# Altium footprint library Wurth_Elektronik_Passive_rev16a.PCBLIB: 810 footprints (part 31 of 51)
Each footprint in its own frame and in the unit in brackets; x right, y up, seen from the top. Pads: shape width x height; smd on the part's side, far side on the other; paste and mask are expansions set on the pad; w line width, h text height; cw(c..) or ccw(c..) is an arc to the next point about the centre after c.
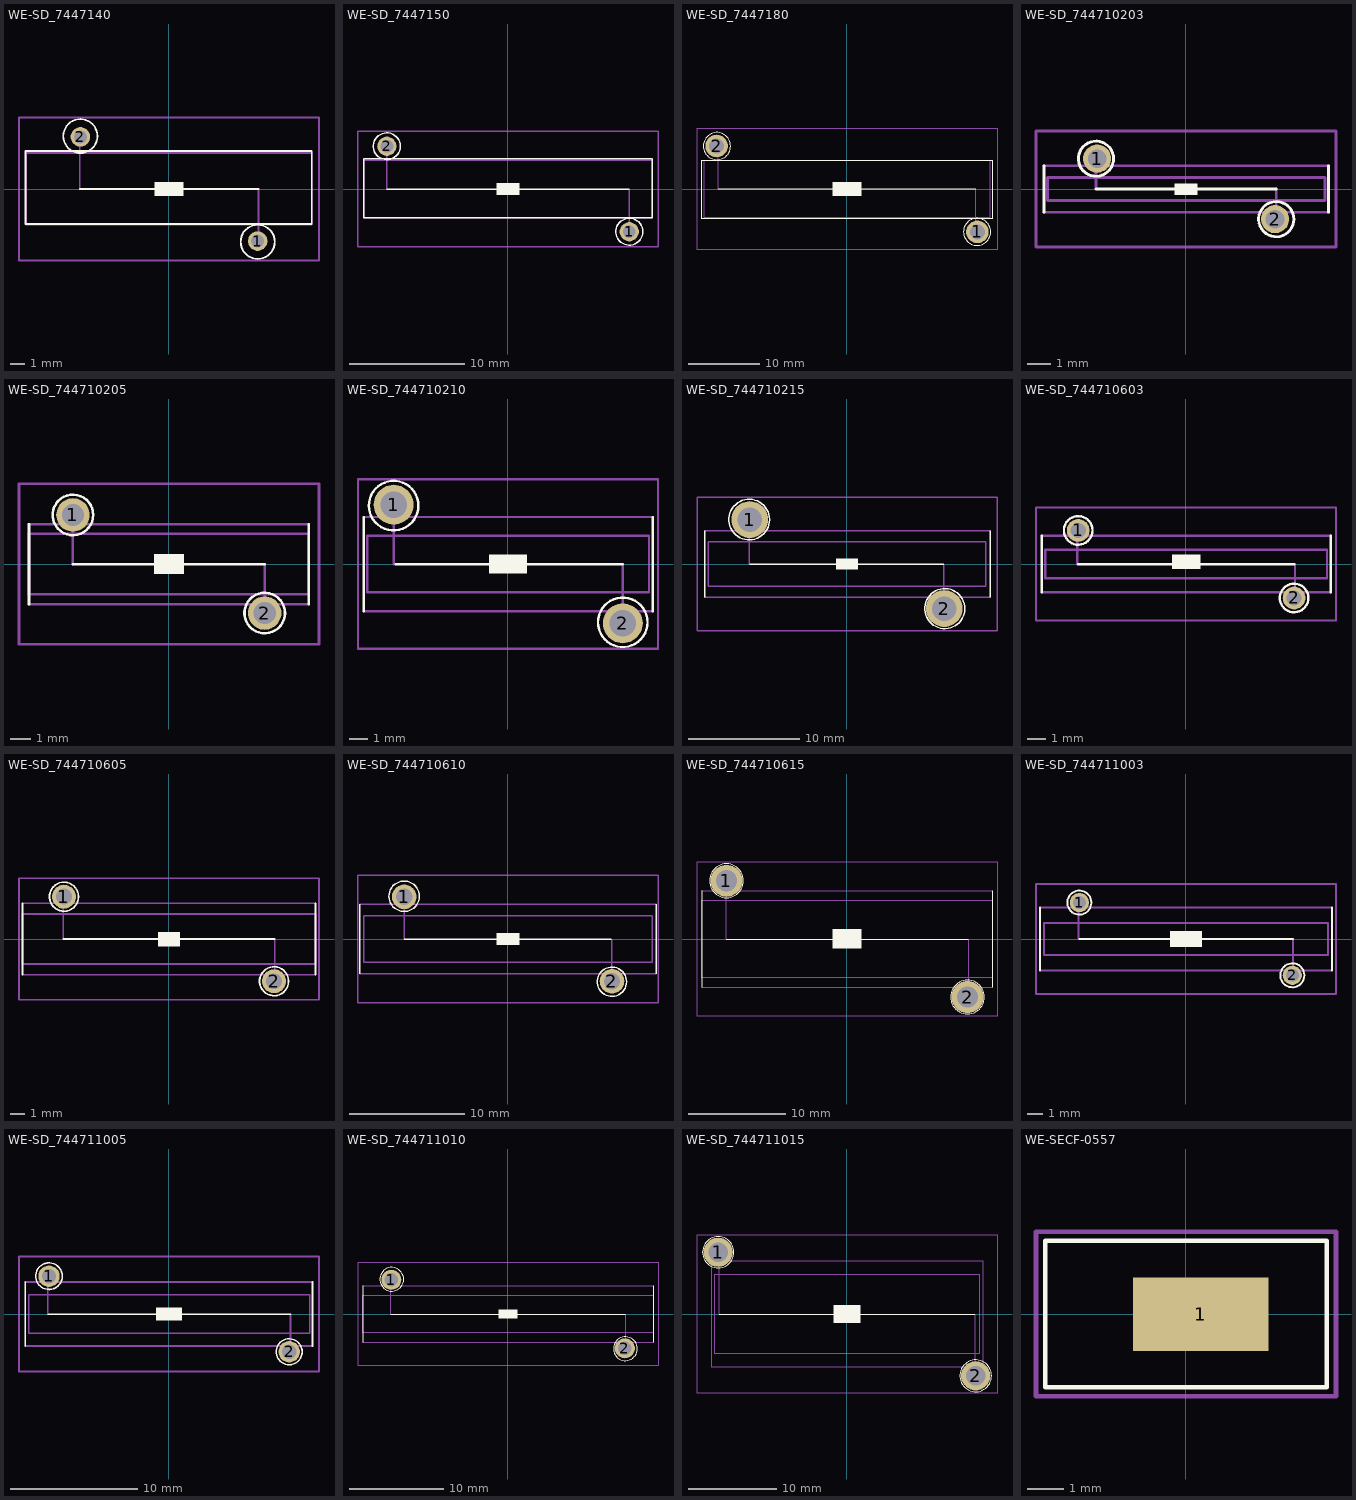
[diagram p30: the footprints below, top view; thin cyan lines are the x and y axes]

## WE-SD_7447140 [mil]
pads (2):
  round 54 hole 36: 1(245,-143.7) 2(-244.09,144)
Top Overlay:
  circle w5: c245,-145.67 r47
  circle w5: c-244.09,146 r47
  region: 40,20 -39.37,20 -39.37,-19.68 40,-19.69
  lines w5: -246.06,0 247,0 ; -395.67,-96.46 -395.67,105 394,105 394,-96.46 -395.67,-96.46
Mechanical 2:
  text ">NAME" at -392.13,224 h77.5
Mechanical 4:
  text ">VALUE" at -384.06,-253.74 h77.5
Mechanical 10:
  lines w5: -393.7,-98.43 394,-98.43 394,99 -393.7,99 -393.7,-98.43
Mechanical 16:
  lines w5: -246.06,0 -246.06,138 ; 247,-147.64 247,0
Mechanical 27:
  lines w5: -413.39,-196.85 414,-196.85 414,197 -413.39,197 -413.39,-196.85

## WE-SD_7447150 [mil]
pads (2):
  round 66 hole 44: 1(414,-145.67) 2(-413.39,146)
Top Overlay:
  circle w5: c414,-145.67 r46
  circle w5: c-413.39,146 r46
  region: 40,20 -39.37,20 -39.37,-19.68 40,-19.69
  lines w5: -413.39,0 414,0 ; -492.13,-98.43 493,-98.43 493,103 -492.13,103 -492.13,-98.43
Mechanical 2:
  text ">NAME" at -483.66,224 h77.5
Mechanical 4:
  text ">VALUE" at -464.37,-253.74 h77.5
Mechanical 10:
  lines w5: -492.13,-98.43 493,-98.43 493,99 -492.13,99 -492.13,-98.43
Mechanical 16:
  lines w5: -413.39,0 -413.39,138 ; 414,-137.8 414,0
Mechanical 27:
  lines w5: -511.81,-196.85 512,-196.85 512,197 -511.81,197 -511.81,-196.85

## WE-SD_7447180 [mil]
pads (2):
  round 124.5 hole 83: 1(719,-236.22) 2(-718.5,237)
Top Overlay:
  circle w5: c717,-236.22 r75
  circle w5: c-716.54,237 r75
  region: 79,40 -78.74,40 -78.74,-39.37 79,-39.37
  lines w5: -708.66,0 709,0 ; -799.21,-163.39 800,-163.39 800,160 -799.21,160 -799.21,-163.39
Mechanical 2:
  text ">NAME" at -804.53,353 h77.5
Mechanical 4:
  text ">VALUE" at -789.37,-387.8 h77.5
Mechanical 10:
  lines w5: -787.4,-157.48 788,-157.48 788,158 -787.4,158 -787.4,-157.48
Mechanical 16:
  lines w5: -708.66,0 -708.66,237 ; 709,-236.22 709,0
Mechanical 27:
  lines w5: -826.77,-334.65 827,-334.65 827,335 -826.77,335 -826.77,-334.65

## WE-SD_744710203 [mil]
pads (2):
  round 48 hole 32: 1(-151.57,52) 2(152,-51.18)
Top Overlay:
  circle w5: c154,-51.18 r30
  circle w5: c-153.54,52 r30
  rectangle: -19.68,-9.84 20,10
  lines w5: -242.13,-39.37 -242.13,40 ; -153.54,0 154,0 ; 243,-39.37 243,40
Mechanical 2:
  text ">NAME" at -298.03,151 h77.5
Mechanical 4:
  text ">VALUE" at -294.09,-199.61 h77.5
Mechanical 10:
  lines w5: -236.22,-19.68 237,-19.68 237,20 -236.22,20 -236.22,-19.68
Mechanical 16:
  lines w5: -242.13,-39.37 243,-39.37 ; -242.13,40 243,40 ; -153.54,0 -153.54,48 ; 154,-51.18 154,0
Mechanical 27:
  lines w5: -255.91,-98.43 256,-98.43 256,99 -255.91,99 -255.91,-98.43

## WE-SD_744710205 [mil]
pads (2):
  round 66 hole 44: 1(-188.98,97) 2(189,-96.46)
Top Overlay:
  circle w5: c-188.98,97 r40
  circle w5: c189,-96.46 r40
  rectangle: -29.53,-19.68 30,20
  lines w5: -275.59,-78.74 -275.59,79 ; -188.98,0 189,0 ; 276,-78.74 276,79
Mechanical 2:
  text ">NAME" at -295.28,168 h77.5
Mechanical 4:
  text ">VALUE" at -285.43,-216.54 h77.5
Mechanical 10:
  lines w5: -275.59,-59.06 276,-59.06 276,60 -275.59,60 -275.59,-59.06
Mechanical 16:
  lines w5: -275.59,-78.74 276,-78.74 ; -275.59,79 276,79 ; -188.98,0 -188.98,95 ; 189,-94.49 189,0
Mechanical 27:
  lines w5: -295.28,-157.48 296,-157.48 296,158 -295.28,158 -295.28,-157.48

## WE-SD_744710210 [mil]
pads (2):
  round 84 hole 56: 1(-240.16,125) 2(241,-124.02)
Top Overlay:
  circle w5: c-240.16,123 r52
  circle w5: c241,-122.05 r52
  rectangle: -39.37,-19.68 40,20
  lines w5: -303.15,-98.43 -303.15,99 ; -236.22,0 241,0 ; 304,-98.43 304,99
Mechanical 2:
  text ">NAME" at -303.15,197 h77.5
Mechanical 4:
  text ">VALUE" at -295.28,-228.35 h77.5
Mechanical 10:
  lines w5: -295.28,-59.06 296,-59.06 296,60 -295.28,60 -295.28,-59.06
Mechanical 16:
  lines w5: -303.15,-98.43 304,-98.43 ; -303.15,99 304,99 ; -240.16,0 -240.16,123 ; 241,-122.05 241,-3.94
Mechanical 27:
  lines w5: -314.96,-177.17 315,-177.17 315,178 -314.96,178 -314.96,-177.17

## WE-SD_744710215 [mil]
pads (2):
  round 130.5 hole 87: 1(-344.49,158) 2(345,-157.48)
Top Overlay:
  circle w5: c-346.46,158 r72
  circle w5: c347,-157.87 r71
  rectangle: -39.37,-19.68 40,20
  lines w5: -503.94,-118.11 -503.94,119 ; -344.49,0 343,0 ; 508,-118.11 508,119
Mechanical 2:
  text ">NAME" at -517.72,260 h77.5
Mechanical 4:
  text ">VALUE" at -507.87,-297.24 h77.5
Mechanical 10:
  lines w5: -492.13,-78.74 493,-78.74 493,79 -492.13,79 -492.13,-78.74
Mechanical 16:
  lines w5: -503.94,-118.11 508,-118.11 ; -503.94,119 508,119 ; -346.46,0 -346.46,154 ; 343,-157.48 343,0
Mechanical 27:
  lines w5: -531.5,-236.22 532,-236.22 532,237 -531.5,237 -531.5,-236.22

## WE-SD_744710603 [mil]
pads (2):
  round 48 hole 32: 1(-226.38,71) 2(227,-70.87)
Top Overlay:
  circle w5: c-226.38,71 r30
  circle w5: c227,-70.87 r30
  rectangle: -29.53,-9.84 30,20
  lines w5: -303.15,-59.06 -303.15,60 ; -226.38,0 227,0 ; 304,-59.06 304,60
Mechanical 2:
  text ">NAME" at -312.99,128 h77.5
Mechanical 4:
  text ">VALUE" at -307.09,-177.17 h77.5
Mechanical 10:
  lines w5: -295.28,-29.53 296,-29.53 296,30 -295.28,30 -295.28,-29.53
Mechanical 16:
  lines w5: -303.15,-59.06 304,-59.06 ; -303.15,60 304,60 ; -228.35,0 -228.35,67 ; 229,-70.87 229,0
Mechanical 27:
  lines w5: -314.96,-118.11 315,-118.11 315,119 -314.96,119 -314.96,-118.11

## WE-SD_744710605 [mil]
pads (2):
  round 66 hole 44: 1(-289.37,117) 2(290,-116.14)
Top Overlay:
  circle w5: c-289.37,117 r40
  circle w5: c290,-116.14 r40
  rectangle: -29.53,-19.68 30,20
  lines w5: -403.54,-98.43 -403.54,99 ; -291.34,0 292,0 ; 404,-98.43 404,99
Mechanical 2:
  text ">NAME" at -413.39,178 h77.5
Mechanical 4:
  text ">VALUE" at -403.54,-226.38 h77.5
Mechanical 10:
  lines w5: -403.54,-68.9 404,-68.9 404,69 -403.54,69 -403.54,-68.9
Mechanical 16:
  lines w5: -403.54,-98.43 404,-98.43 ; -403.54,99 404,99 ; -291.34,0 -291.34,115 ; 292,-114.17 292,0
Mechanical 27:
  lines w5: -413.39,-167.32 414,-167.32 414,168 -413.39,168 -413.39,-167.32

## WE-SD_744710610 [mil]
pads (2):
  round 84 hole 56: 1(-354.33,144) 2(355,-143.7)
Top Overlay:
  circle w5: c-354.33,146 r52
  circle w5: c355,-145.67 r50
  rectangle: -39.37,-19.68 40,20
  lines w5: -505.91,-118.11 -505.91,119 ; -354.33,0 353,0 ; 506,-118.11 506,119
Mechanical 2:
  text ">NAME" at -511.81,237 h77.5
Mechanical 4:
  text ">VALUE" at -511.81,-275.59 h77.5
Mechanical 10:
  lines w5: -492.13,-78.74 493,-78.74 493,79 -492.13,79 -492.13,-78.74
Mechanical 16:
  lines w5: -505.91,-118.11 506,-118.11 ; -505.91,119 506,119 ; -354.33,0 -354.33,142 ; 355,-145.67 355,0
Mechanical 27:
  lines w5: -511.81,-216.54 512,-216.54 512,217 -511.81,217 -511.81,-216.54

## WE-SD_744710615 [mil]
pads (2):
  round 130.5 hole 87: 1(-490.16,237) 2(491,-236.22)
Top Overlay:
  circle w5: c-490.16,237 r69
  circle w5: c491,-236.22 r69
  rectangle: -59.06,-39.37 60,40
  lines w5: -590.55,-196.85 -590.55,197 ; -492.13,0 493,0 ; 591,-196.85 591,197
Mechanical 2:
  text ">NAME" at -590.55,335 h77.5
Mechanical 4:
  text ">VALUE" at -590.55,-374.02 h77.5
Mechanical 10:
  lines w5: -590.55,-157.48 591,-157.48 591,158 -590.55,158 -590.55,-157.48
Mechanical 16:
  lines w5: -590.55,-196.85 591,-196.85 ; -590.55,197 591,197 ; -492.13,0 -492.13,237 ; 493,-240.16 493,0
Mechanical 27:
  lines w5: -610.24,-314.96 611,-314.96 611,315 -610.24,315 -610.24,-314.96

## WE-SD_744711003 [mil]
pads (2):
  round 48 hole 32: 1(-265.75,91) 2(266,-90.55)
Top Overlay:
  circle w5: c-265.75,91 r30
  circle w5: c266,-90.55 r30
  rectangle: -39.37,-19.68 40,20
  lines w5: -364.17,-78.74 -364.17,79 ; -265.75,0 266,0 ; 264,0 268,0 ; 365,-78.74 365,79
Mechanical 2:
  text ">NAME" at -364.17,148 h77.5
Mechanical 4:
  text ">VALUE" at -364.17,-196.85 h77.5
Mechanical 10:
  lines w5: -354.33,-39.37 355,-39.37 355,40 -354.33,40 -354.33,-39.37
Mechanical 16:
  lines w5: -364.17,-78.74 365,-78.74 ; -364.17,79 365,79 ; -267.72,87 -267.72,0 -263.78,0 ; 268,-90.55 268,0
Mechanical 27:
  lines w5: -374.02,-137.8 375,-137.8 375,138 -374.02,138 -374.02,-137.8

## WE-SD_744711005 [mil]
pads (2):
  round 66 hole 44: 1(-370.08,117) 2(371,-116.14)
Top Overlay:
  circle w5: c-370.08,117 r41
  circle w5: c371,-116.14 r40
  rectangle: -39.37,-19.68 40,20
  lines w5: -442.91,-98.43 -442.91,99 ; -374.02,0 375,0 ; 443,-98.43 443,99
Mechanical 2:
  text ">NAME" at -472.44,188 h77.5
Mechanical 4:
  text ">VALUE" at -462.6,-236.22 h77.5
Mechanical 10:
  lines w5: -433.07,-59.06 434,-59.06 434,60 -433.07,60 -433.07,-59.06
Mechanical 16:
  lines w5: -442.91,-98.43 443,-98.43 ; -442.91,99 443,99 ; -374.02,4 -374.02,115 ; 375,-114.17 375,0
Mechanical 27:
  lines w5: -462.6,-177.17 463,-177.17 463,178 -462.6,178 -462.6,-177.17

## WE-SD_744711010 [mil]
pads (2):
  round 84 hole 56: 1(-490.16,144) 2(491,-143.7)
Top Overlay:
  circle w5: c-488.19,146 r50
  circle w5: c493,-145.67 r50
  rectangle: -39.37,-19.68 40,20
  lines w5: -610.24,-118.11 -610.24,119 ; -492.13,0 493,0 ; 611,-118.11 611,119
Mechanical 2:
  text ">NAME" at -610.24,237 h77.5
Mechanical 4:
  text ">VALUE" at -610.24,-275.59 h77.5
Mechanical 10:
  lines w5: -610.24,-78.74 611,-78.74 611,79 -610.24,79 -610.24,-78.74
Mechanical 16:
  lines w5: -610.24,-118.11 611,-118.11 ; -610.24,119 611,119 ; -492.13,0 -492.13,138 ; 493,-141.73 493,0
Mechanical 27:
  lines w5: -629.92,-216.54 630,-216.54 630,217 -629.92,217 -629.92,-216.54

## WE-SD_744711015 [mil]
pads (2):
  round 130.5 hole 87: 1(-574.8,276) 2(575,-275.59)
Top Overlay:
  circle w5: c575,-275.59 r71
  circle w5: c-574.8,276 r70
  rectangle: -59.06,-39.37 60,40
  lines w5: -570.87,0 571,0
Mechanical 2:
  text ">NAME" at -629.92,375 h77.5
Mechanical 4:
  text ">VALUE" at -629.92,-413.39 h77.5
Mechanical 10:
  lines w5: -590.55,-177.17 591,-177.17 591,178 -590.55,178 -590.55,-177.17
Mechanical 16:
  lines w5: -570.87,0 -570.87,276 ; 571,-275.59 571,0 ; -606.3,-236.22 607,-236.22 607,237 -606.3,237 -606.3,-236.22
Mechanical 27:
  lines w5: -669.29,-354.33 670,-354.33 670,355 -669.29,355 -669.29,-354.33

## WE-SECF-0557 [mil]
pads (1):
  rect 146x79 smd: 1(16,0)
Top Overlay:
  lines w5: -151.57,-78.74 152,-78.74 152,79 -151.57,79 -151.57,-78.74
Mechanical 2:
  text ">NAME" at -100,100 h77.5
Mechanical 4:
  text ">VALUE" at -125,-150 h77.5
Mechanical 27:
  lines w5: -161.42,-88.58 162,-88.58 162,89 -161.42,89 -161.42,-88.58